# EAGLE library part LM358 (library Fortech)
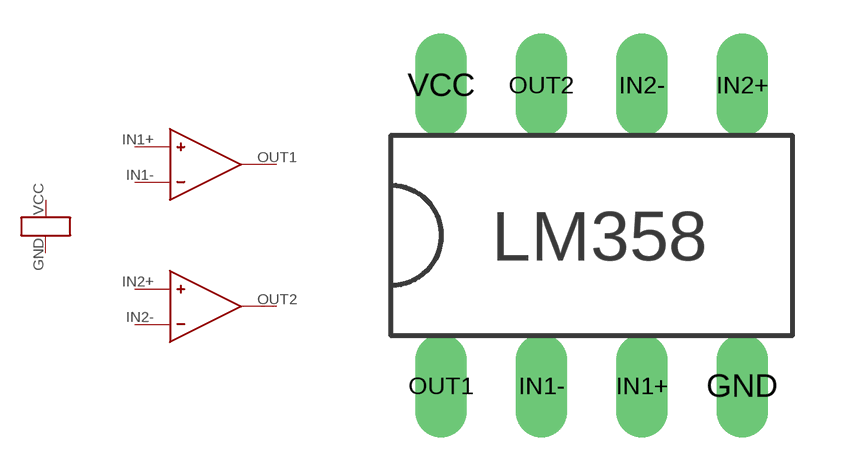
[diagram p0: symbol with the pads of LM358; footprint LM358]

Designator prefix -; gates POWER=POWER OPAMP1=OPAMP OPAMP2=OPAMP

## LM358  [LM358]
GND  POWER:GND
IN1+  OPAMP1:IN+
IN1-  OPAMP1:IN-
IN2+  OPAMP2:IN+
IN2-  OPAMP2:IN-
OUT1  OPAMP1:OUT
OUT2  OPAMP2:OUT
VCC  POWER:VCC

## Footprint LM358 (pad centres in mm)
drill 0.8 long: GND 3.81,-3.81; IN1+ 1.27,-3.81; IN1- -1.27,-3.81; IN2+ 3.81,3.81; IN2- 1.27,3.81; OUT1 -3.81,-3.81; OUT2 -1.27,3.81; VCC -3.81,3.81